# EAGLE library part LP5900 (library Zoli2_2015-02-22)
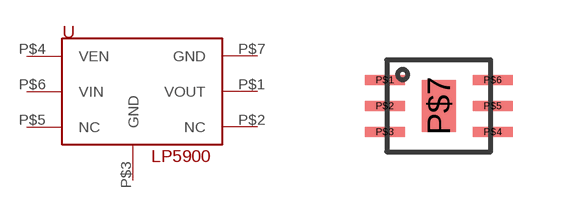
[diagram p67: symbol with the pads of LP5900; footprint LP5900]

Designator prefix -

## LP5900  [LP5900]
P$1  VOUT  pwr
P$2  NC  nc
P$3  GND  pwr
P$4  VEN  in
P$5  NC  nc
P$6  VIN  in
P$7  GND  pwr

## Footprint LP5900 (pad centres in mm)
smd 1 x 0.25: P$1 -1.35,0.65; P$2 -1.35,0; P$3 -1.35,-0.65; P$4 1.35,-0.65; P$5 1.35,0; P$6 1.35,0.65
smd 0.85 x 1.3: P$7 0,0